# Altium schematic symbol library Connectors Spring.SchLib: 1 symbol
Pins are listed as number, name and electrical type; pins without a type are passive.

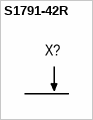
[diagram p0: symbol S1791-42R]

## S1791-42R
designator X?  (value not drawn)
Shield finger; Manufacturer: 2.50mm x 7.00mm; Group: Commutation - Connectors - Spring; Dimension: 2.80mm x 3.20mm; Operating Temperature: -40°C +85°C; Mounting Type: Surface Mount; Package: S1791-42R; Part name: S1791-42R; Thickness: 4.00mm
footprint S1791-42R (S1791-42R EMI shield finger)
pins: 1